# Altium schematic symbol library Indicator.SchLib: 60 symbols
Pins are listed as number, name and electrical type; pins without a type are passive.

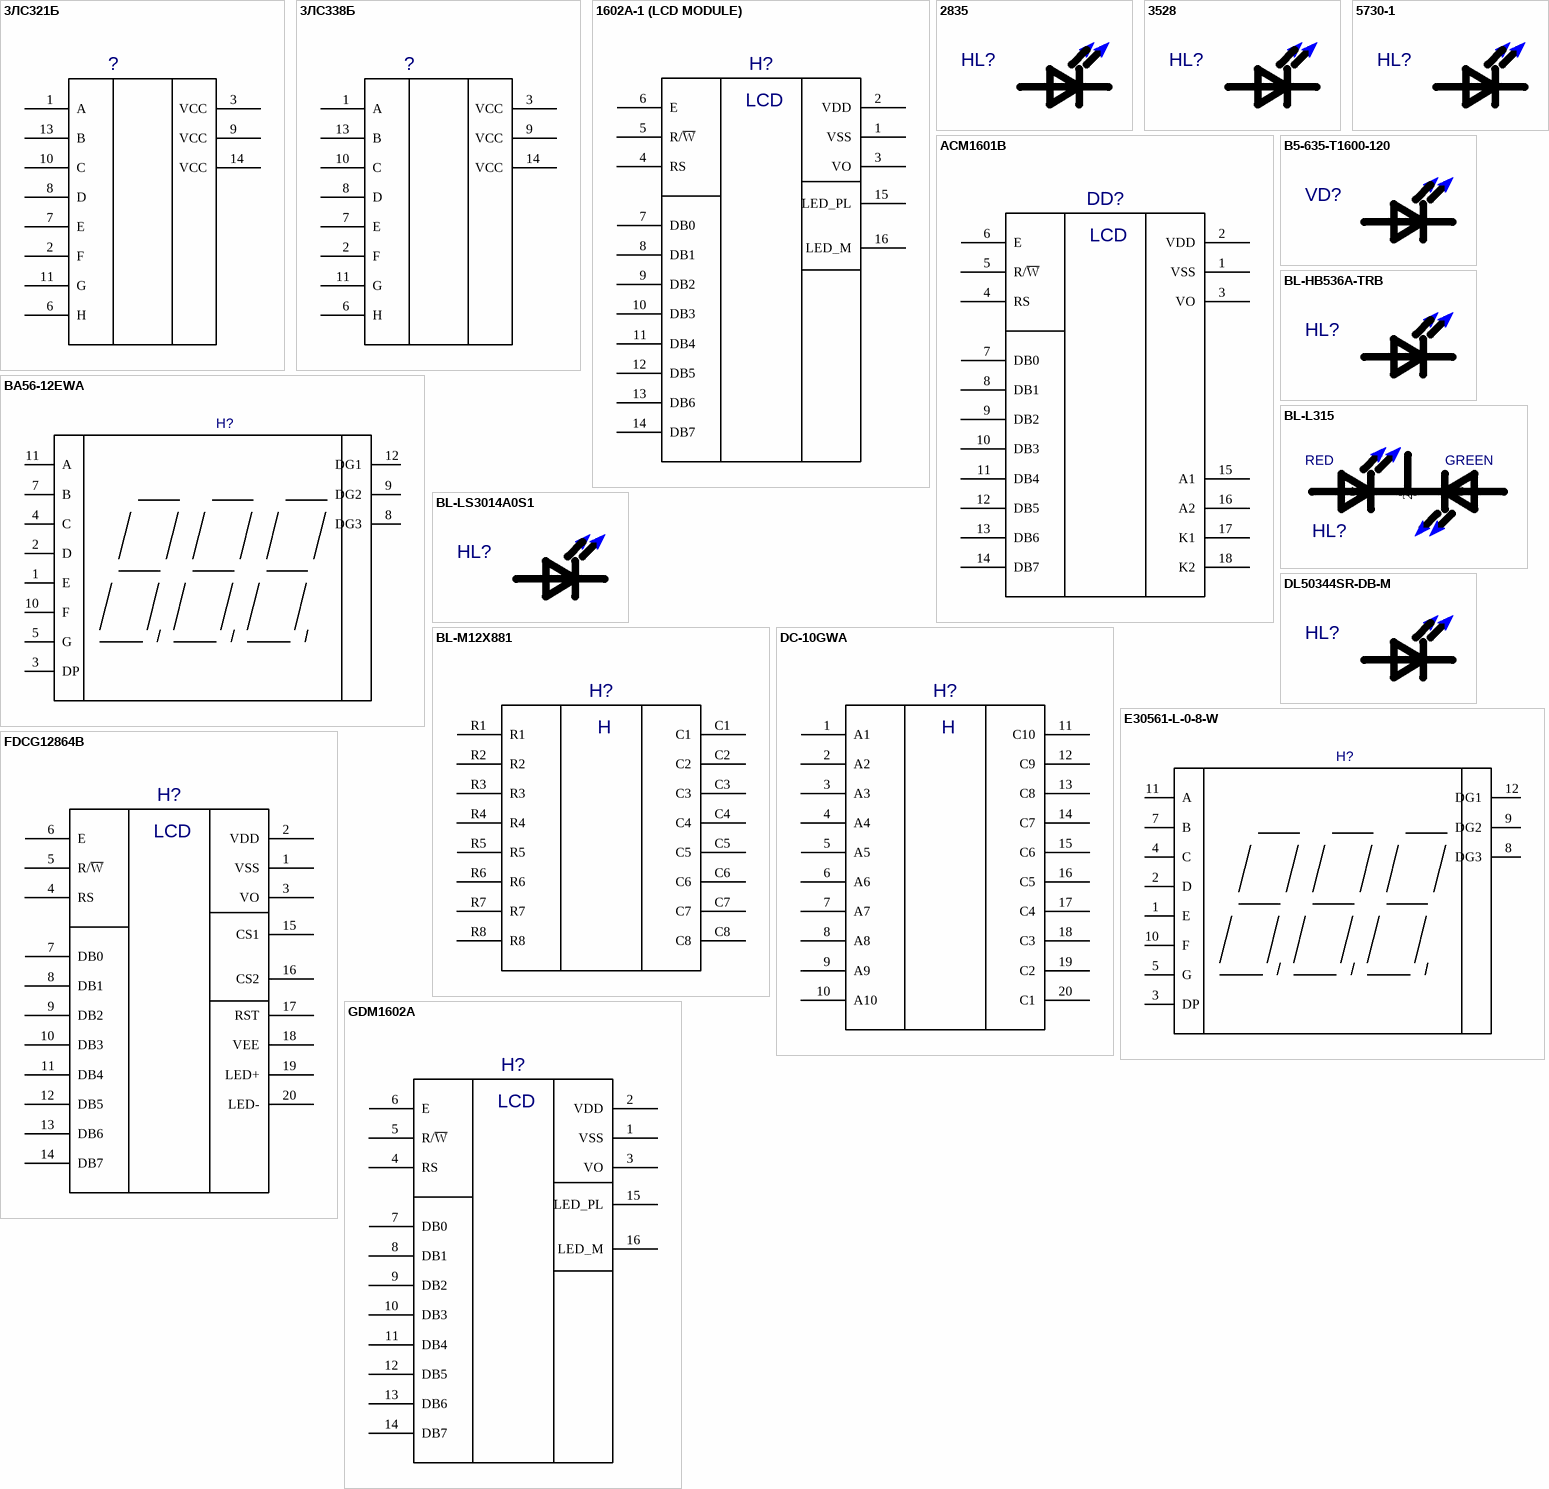
[diagram p0: symbols 3ЛС321Б to GDM1602A]

## 3ЛС321Б
designator ?  (value not drawn)
Value: *
footprint АЛС338
pins: 1 A, 2 F, 3 VCC, 4 hidden, 5 hidden, 6 H, 7 E, 8 D, 9 VCC, 10 C, 11 G, 12 hidden, 13 B, 14 VCC

## 3ЛС338Б
designator ?  (value not drawn)
Value: *
footprint АЛС338
pins: 1 A, 2 F, 3 VCC, 4 hidden, 5 hidden, 6 H, 7 E, 8 D, 9 VCC, 10 C, 11 G, 12 hidden, 13 B, 14 VCC

## 1602A-1 (LCD MODULE)
designator H?  (value not drawn)
Author: pcbdesigner.ru; Value: *
footprint 1602A-1
pins: 1 VSS, 2 VDD, 3 VO, 4 RS, 5 R/~{W}, 6 E, 7 DB0, 8 DB1, 9 DB2, 10 DB3, 11 DB4, 12 DB5, 13 DB6, 14 DB7, 15 LED_PL, 16 LED_M
text: LCD

## 2835
designator HL?  (value not drawn)
Value: {Value}
footprint 3528_2835(Primary)
pins: A, K

## 3528
designator HL?  (value not drawn)
Value: {Value}
footprint 3528_3528(Primary)
pins: A, K

## 5730-1
designator HL?  (value not drawn)
Value: {Value}
footprint 5730-1_5730-1(Primary)
pins: 3 hidden, A 1, K 2

## ACM1601B
designator DD?  (value not drawn)
Author: pcbdesigner.ru; Value: *
footprint DISPLAY-16DG
pins: 1 VSS, 2 VDD, 3 VO, 4 RS, 5 R/~{W}, 6 E, 7 DB0, 8 DB1, 9 DB2, 10 DB3, 11 DB4, 12 DB5, 13 DB6, 14 DB7, 15 A1, 16 A2, 17 K1, 18 K2
text: LCD

## B5-635-T1600-120
designator VD?  (value not drawn)
Value: {Value}
footprint LED-5MM
pins: 1 A, 2 K

## BA56-12EWA
designator H?  (value not drawn)
Value: *
footprint INDICATOR-3-DIG
pins: 1 E, 2 D, 3 DP, 4 C, 5 G, 6 hidden, 7 B, 8 DG3, 9 DG2, 10 F, 11 A, 12 DG1

## BL-HB536A-TRB
designator HL?  (value not drawn)
Value: {Value}
footprint BL-HB536A-TRB_BL-HB536A-TRB(Primary)
pins: A, K

## BL-L315
designator HL?  (value not drawn)
Value: *
footprint LED-5MM-3PIN
pins: 1, 2, 3
text: RED; GREEN

## BL-LS3014A0S1
designator HL?  (value not drawn)
Value: {Value}
footprint NSSU123-E_BL-LS3014A0S1(Primary)
pins: A, K

## BL-M12X881
designator H?  (value not drawn)
Author: pcbdesigner.ru; Value: *
footprint BL-M12X881_BL-M12X881(Primary)
pins: C1, C2, C3, C4, C5, C6, C7, C8, R1, R2, R3, R4, R5, R6, R7, R8
text: H

## DC-10GWA
designator H?  (value not drawn)
Author: pcbdesigner.ru; Value: *
footprint LED BAR 10SEG
pins: 1 A1, 2 A2, 3 A3, 4 A4, 5 A5, 6 A6, 7 A7, 8 A8, 9 A9, 10 A10, 11 C10, 12 C9, 13 C8, 14 C7, 15 C6, 16 C5, 17 C4, 18 C3, 19 C2, 20 C1
text: H

## DL50344SR-DB-M
designator HL?  (value not drawn)
Value: {Value}
footprint 3528_DL50344SR-DB-M(Primary)
pins: A 1, K 2

## E30561-L-0-8-W
designator H?  (value not drawn)
Value: *
footprint INDICATOR-3-DIG
pins: 1 E, 2 D, 3 DP, 4 C, 5 G, 6 hidden, 7 B, 8 DG3, 9 DG2, 10 F, 11 A, 12 DG1

## FDCG12864B
designator H?  (value not drawn)
Author: pcbdesigner.ru; Value: *
footprint FDCG12864B
pins: 1 VSS, 2 VDD, 3 VO, 4 RS, 5 R/~{W}, 6 E, 7 DB0, 8 DB1, 9 DB2, 10 DB3, 11 DB4, 12 DB5, 13 DB6, 14 DB7, 15 CS1, 16 CS2, 17 RST, 18 VEE, 19 LED+, 20 LED-, 21 hidden, 22 hidden, 23 hidden, 24 hidden, 25 hidden, 26 hidden
text: LCD

## GDM1602A
designator H?  (value not drawn)
Author: pcbdesigner.ru; Value: *
footprint GDM1602A
pins: 1 VSS, 2 VDD, 3 VO, 4 RS, 5 R/~{W}, 6 E, 7 DB0, 8 DB1, 9 DB2, 10 DB3, 11 DB4, 12 DB5, 13 DB6, 14 DB7, 15 LED_PL, 16 LED_M
text: LCD

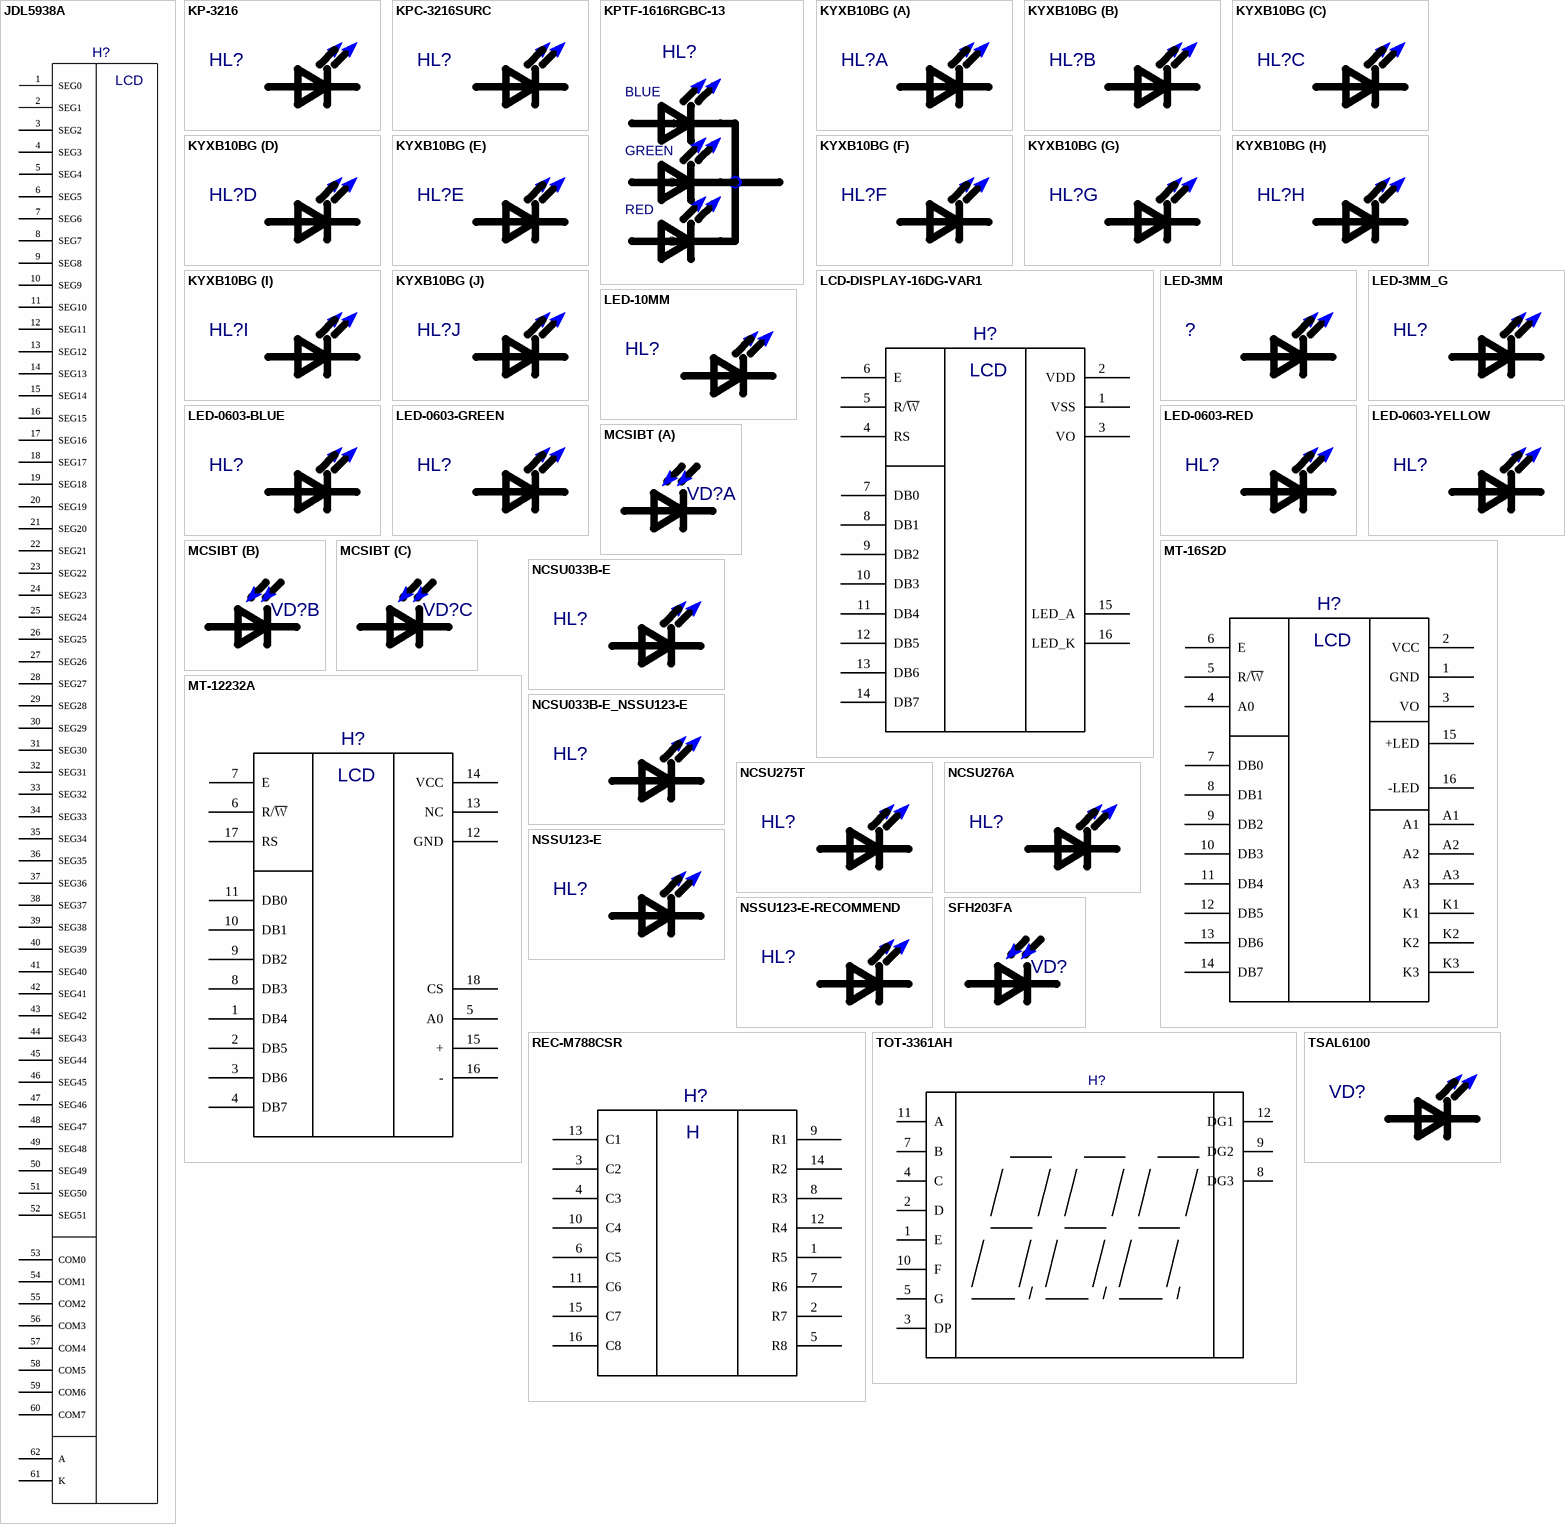
[diagram p1: symbols JDL5938A to TSAL6100]

## JDL5938A
designator H?  (value not drawn)
Author: pcbdesigner.ru; Value: *
footprint JDL5938A
pins: 1 SEG0, 2 SEG1, 3 SEG2, 4 SEG3, 5 SEG4, 6 SEG5, 7 SEG6, 8 SEG7, 9 SEG8, 10 SEG9, 11 SEG10, 12 SEG11, 13 SEG12, 14 SEG13, 15 SEG14, 16 SEG15, 17 SEG16, 18 SEG17, 19 SEG18, 20 SEG19, 21 SEG20, 22 SEG21, 23 SEG22, 24 SEG23, 25 SEG24, 26 SEG25, 27 SEG26, 28 SEG27, 29 SEG28, 30 SEG29, 31 SEG30, 32 SEG31, 33 SEG32, 34 SEG33, 35 SEG34, 36 SEG35, 37 SEG36, 38 SEG37, 39 SEG38, 40 SEG39, 41 SEG40, 42 SEG41, 43 SEG42, 44 SEG43, 45 SEG44, 46 SEG45, 47 SEG46, 48 SEG47, 49 SEG48, 50 SEG49, 51 SEG50, 52 SEG51, 53 COM0, 54 COM1, 55 COM2, 56 COM3, 57 COM4, 58 COM5, 59 COM6, 60 COM7, 61 K, 62 A
text: LCD

## KP-3216
designator HL?  (value not drawn)
Value: {Value}
footprint KPC-3216SURC
pins: 1 A, 2 K

## KPC-3216SURC
designator HL?  (value not drawn)
Value: {Value}
footprint KPC-3216SURC
pins: 1 A, 2 K

## KPTF-1616RGBC-13
designator HL?  (value not drawn)
Value: *
footprint KPTF-1616RGBC-13
pins: 1, 2, 3, 4
text: BLUE; GREEN; RED

## KYXB10BG
designator HL?  (value not drawn)
Value: {Value}
footprint LED BAR 10SEG
part A pins: 1 A, 20 K
part B pins: 2 A, 19 K
part C pins: 3 A, 18 K
part D pins: 4 A, 17 K
part E pins: 5 A, 16 K
part F pins: 6 A, 15 K
part G pins: 7 A, 14 K
part H pins: 8 A, 13 K
part I pins: 9 A, 12 K
part J pins: 10 A, 11 K

## LCD-DISPLAY-16DG-VAR1
designator H?  (value not drawn)
Author: pcbdesigner.ru; Value: *
footprint DISPLAY-16DG-VAR1
pins: 1 VSS, 2 VDD, 3 VO, 4 RS, 5 R/~{W}, 6 E, 7 DB0, 8 DB1, 9 DB2, 10 DB3, 11 DB4, 12 DB5, 13 DB6, 14 DB7, 15 LED_A, 16 LED_K
text: LCD

## LED-3MM
designator ?  (value not drawn)
Value: {Value}
footprint LED-3MM
pins: 1 A, 2 K

## LED-3MM_G
designator HL?  (value not drawn)
Value: {Value}
footprint LED-3MM_G
pins: 1 A, 2 K

## LED-10MM
designator HL?  (value not drawn)
Value: {Value}
footprint LED-10MM
pins: 1 A, 2 K

## LED-0603-BLUE
designator HL?  (value not drawn)
Value: {Value}
footprint BL-HB536A-TRB_LED-0603-BLUE(Primary)
pins: A, K

## LED-0603-GREEN
designator HL?  (value not drawn)
Value: {Value}
footprint BL-HB536A-TRB_LED-0603-GREEN(Primary)
pins: A, K

## LED-0603-RED
designator HL?  (value not drawn)
Value: {Value}
footprint BL-HB536A-TRB_LED-0603-RED(Primary)
pins: A, K

## LED-0603-YELLOW
designator HL?  (value not drawn)
Value: {Value}
footprint BL-HB536A-TRB_LED-0603-YELLOW(Primary)
pins: A, K

## MCSIBT
designator VD?  (value not drawn)
Value: {Value}
footprint TO-5-MCSIBT
pins on every part: 4 hidden
part A pins: 1 R, 5 K
part B pins: 2 B, 6 K
part C pins: 3 G, 7 K

## MT-16S2D
designator H?  (value not drawn)
Author: pcbdesigner.ru; Value: *
footprint LCD-16X2(MT-16S2D)_MT-16S2D(Primary)
pins: 1 GND, 2 VCC, 3 VO, 4 A0, 5 R/~{W}, 6 E, 7 DB0, 8 DB1, 9 DB2, 10 DB3, 11 DB4, 12 DB5, 13 DB6, 14 DB7, 15 +LED, 16 -LED, 19 hidden, 23 hidden, 24 hidden, 25 hidden, A1, A2, A3, K1, K2, K3
text: LCD

## MT-12232A
designator H?  (value not drawn)
Author: pcbdesigner.ru; Value: *
footprint MT-12232A
pins: 1 DB4, 2 DB5, 3 DB6, 4 DB7, 5 A0, 6 R/~{W}, 7 E, 8 DB3, 9 DB2, 10 DB1, 11 DB0, 12 GND, 13 NC, 14 VCC, 15 +, 16 -, 17 RS, 18 CS
text: LCD

## NCSU033B-E
designator HL?  (value not drawn)
Value: {Value}
footprint NCSU033B-E
pins: 1 A, 2 K

## NCSU033B-E_NSSU123-E
designator HL?  (value not drawn)
Value: {Value}
footprint NCSU033B-E_NSSU123-E
pins: 1 A, 2 K

## NCSU275T
designator HL?  (value not drawn)
Value: {Value}
footprint U365_NCSU275T(Primary)
pins: A, K

## NCSU276A
designator HL?  (value not drawn)
Value: {Value}
footprint U365_NCSU276A(Primary)
pins: A, K

## NSSU123-E
designator HL?  (value not drawn)
Value: {Value}
footprint NSSU123-E_NSSU123-E(Primary)
pins: A, K

## NSSU123-E-RECOMMEND
designator HL?  (value not drawn)
Value: {Value}
footprint NSSU123-E-RECOMMEND_NSSU123-E-RECOMMEND(Primary)
pins: A 1, K 2

## REC-M788CSR
designator H?  (value not drawn)
Author: pcbdesigner.ru; Value: *
footprint REC-M788CSR
pins: 1 R5, 2 R7, 3 C2, 4 C3, 5 R8, 6 C5, 7 R6, 8 R3, 9 R1, 10 C4, 11 C6, 12 R4, 13 C1, 14 R2, 15 C7, 16 C8
text: H

## SFH203FA
designator VD?  (value not drawn)
Value: {Value}
footprint LED-5MM
pins: 1 A, 2 K

## TOT-3361AH
designator H?  (value not drawn)
Value: *
footprint INDICATOR-3-DIG-TOT-3361
pins: 1 E, 2 D, 3 DP, 4 C, 5 G, 6 hidden, 7 B, 8 DG3, 9 DG2, 10 F, 11 A, 12 DG1

## TSAL6100
designator VD?  (value not drawn)
Value: {Value}
footprint LED-5MM
pins: 1 A, 2 K

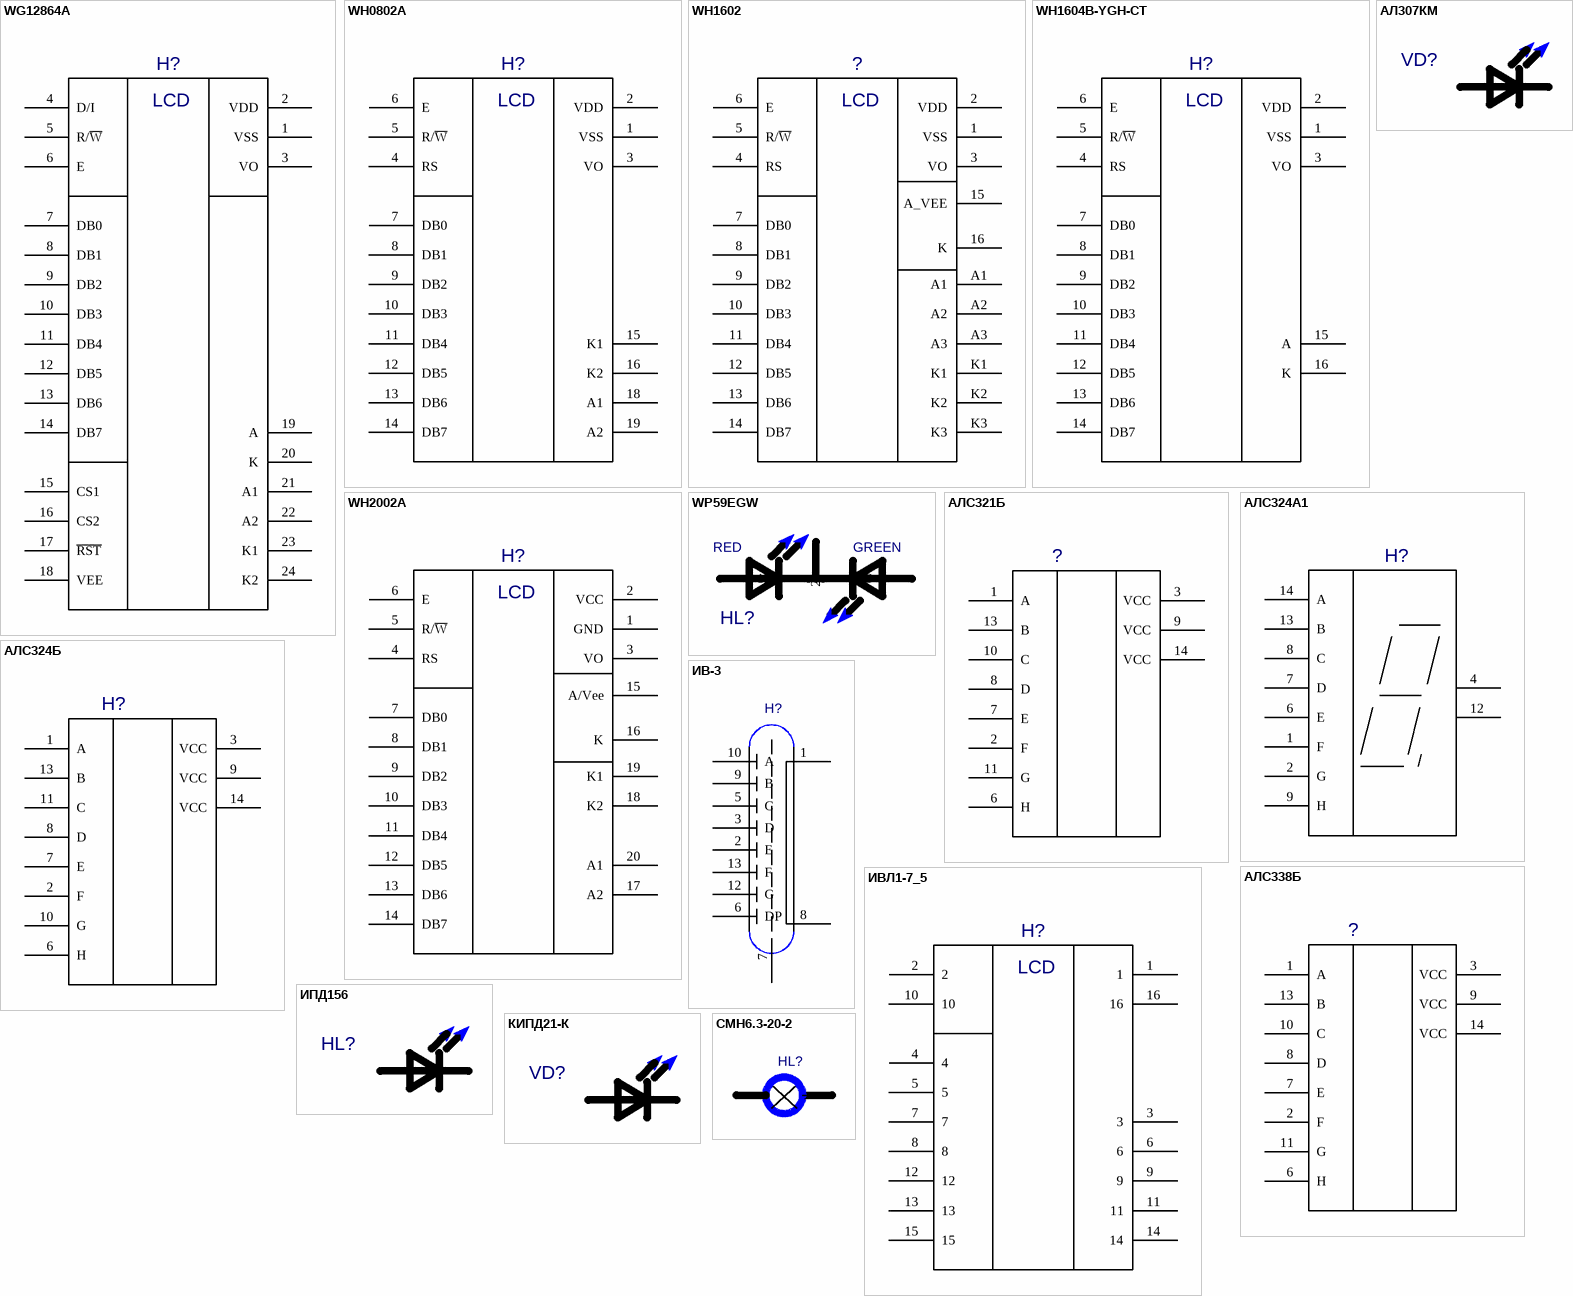
[diagram p2: symbols WG12864A to СМН6.3-20-2]

## WG12864A
designator H?  (value not drawn)
Author: pcbdesigner.ru; Value: *
footprint WG12864A
pins: 1 VSS, 2 VDD, 3 VO, 4 D/I, 5 R/~{W}, 6 E, 7 DB0, 8 DB1, 9 DB2, 10 DB3, 11 DB4, 12 DB5, 13 DB6, 14 DB7, 15 CS1, 16 CS2, 17 ~{RST}, 18 VEE, 19 A, 20 K, 21 A1, 22 A2, 23 K1, 24 K2, 25 hidden, 26 hidden, 27 hidden, 28 hidden
text: LCD

## WH0802A
designator H?  (value not drawn)
Author: pcbdesigner.ru; Value: *
footprint LCD-8X2(WH0802A)
pins: 1 VSS, 2 VDD, 3 VO, 4 RS, 5 R/~{W}, 6 E, 7 DB0, 8 DB1, 9 DB2, 10 DB3, 11 DB4, 12 DB5, 13 DB6, 14 DB7, 15 K1, 16 K2, 18 A1, 19 A2
text: LCD

## WH1602
designator ?  (value not drawn)
Author: pcbdesigner.ru; Value: *
footprint LCD-16X2_WH1602(Primary)
pins: 1 VSS, 2 VDD, 3 VO, 4 RS, 5 R/~{W}, 6 E, 7 DB0, 8 DB1, 9 DB2, 10 DB3, 11 DB4, 12 DB5, 13 DB6, 14 DB7, 15 A_VEE, 16 K, 23 hidden, 24 hidden, A1, A2, A3, K1, K2, K3
text: LCD

## WH1604B-YGH-CT
designator H?  (value not drawn)
Author: pcbdesigner.ru; Value: *
footprint LCD-16X4
pins: 1 VSS, 2 VDD, 3 VO, 4 RS, 5 R/~{W}, 6 E, 7 DB0, 8 DB1, 9 DB2, 10 DB3, 11 DB4, 12 DB5, 13 DB6, 14 DB7, 15 A, 16 K
text: LCD

## WH2002A
designator H?  (value not drawn)
Author: pcbdesigner.ru; Value: *
footprint WH2002A
pins: 1 GND, 2 VCC, 3 VO, 4 RS, 5 R/~{W}, 6 E, 7 DB0, 8 DB1, 9 DB2, 10 DB3, 11 DB4, 12 DB5, 13 DB6, 14 DB7, 15 A/Vee, 16 K, 17 A2, 18 K2, 19 K1, 20 A1, 21 hidden, 22 hidden, 23 hidden, 24 hidden
text: LCD

## WP59EGW
designator HL?  (value not drawn)
Value: *
footprint LED-5MM-3PIN
pins: 1, 2, 3
text: RED; GREEN

## АЛ307КМ
designator VD?  (value not drawn)
Value: {Value}
footprint LED-5MM
pins: 1 A, 2 K

## АЛС321Б
designator ?  (value not drawn)
Value: *
footprint АЛС338
pins: 1 A, 2 F, 3 VCC, 4 hidden, 5 hidden, 6 H, 7 E, 8 D, 9 VCC, 10 C, 11 G, 12 hidden, 13 B, 14 VCC

## АЛС324А1
designator H?  (value not drawn)
Value: *
footprint DIP-14-IND(7P5X2P5)
pins: 1 F, 2 G, 3 hidden, 4 VCC, 5 hidden, 6 E, 7 D, 8 C, 9 H, 10 hidden, 11 hidden, 12 VCC, 13 B, 14 A

## АЛС324Б
designator H?  (value not drawn)
Value: *
footprint ALS324B
pins: 1 A, 2 F, 3 VCC, 4 hidden, 5 hidden, 6 H, 7 E, 8 D, 9 VCC, 10 G, 11 C, 12 hidden, 13 B, 14 VCC

## АЛС338Б
designator ?  (value not drawn)
Value: *
footprint АЛС338
pins: 1 A, 2 F, 3 VCC, 4 hidden, 5 hidden, 6 H, 7 E, 8 D, 9 VCC, 10 C, 11 G, 12 hidden, 13 B, 14 VCC

## ИВ-3
designator H?  (value not drawn)
Author: pcbdesigner.ru; Value: *
footprint ИВ-3
pins: 1 VCC, 2 E, 3 D, 4 hidden, 5 C, 6 DP, 7, 8 GND, 9 B, 10 A, 11 hidden, 12 G, 13 F, 14 hidden

## ИВЛ1-7_5
designator H?  (value not drawn)
Author: pcbdesigner.ru; Value: *
footprint ИВЛ1-7_5
pins: 1, 2, 3, 4, 5, 6, 7, 8, 9, 10, 11, 12, 13, 14, 15, 16
text: LCD

## ИПД156
designator HL?  (value not drawn)
Value: {Value}
footprint 3528
pins: 1 K, 2 A

## КИПД21-К
designator VD?  (value not drawn)
Value: {Value}
footprint LED-5MM
pins: 1 A, 2 K

## СМН6.3-20-2
designator HL?  (value not drawn)
Value: {Value}
footprint HL_MINI
pins: 1, 2